# Altium schematic symbol library PCB_Project_Power_1.SCHLIB: 68 symbols
Pins are listed as number, name and electrical type; pins without a type are passive.

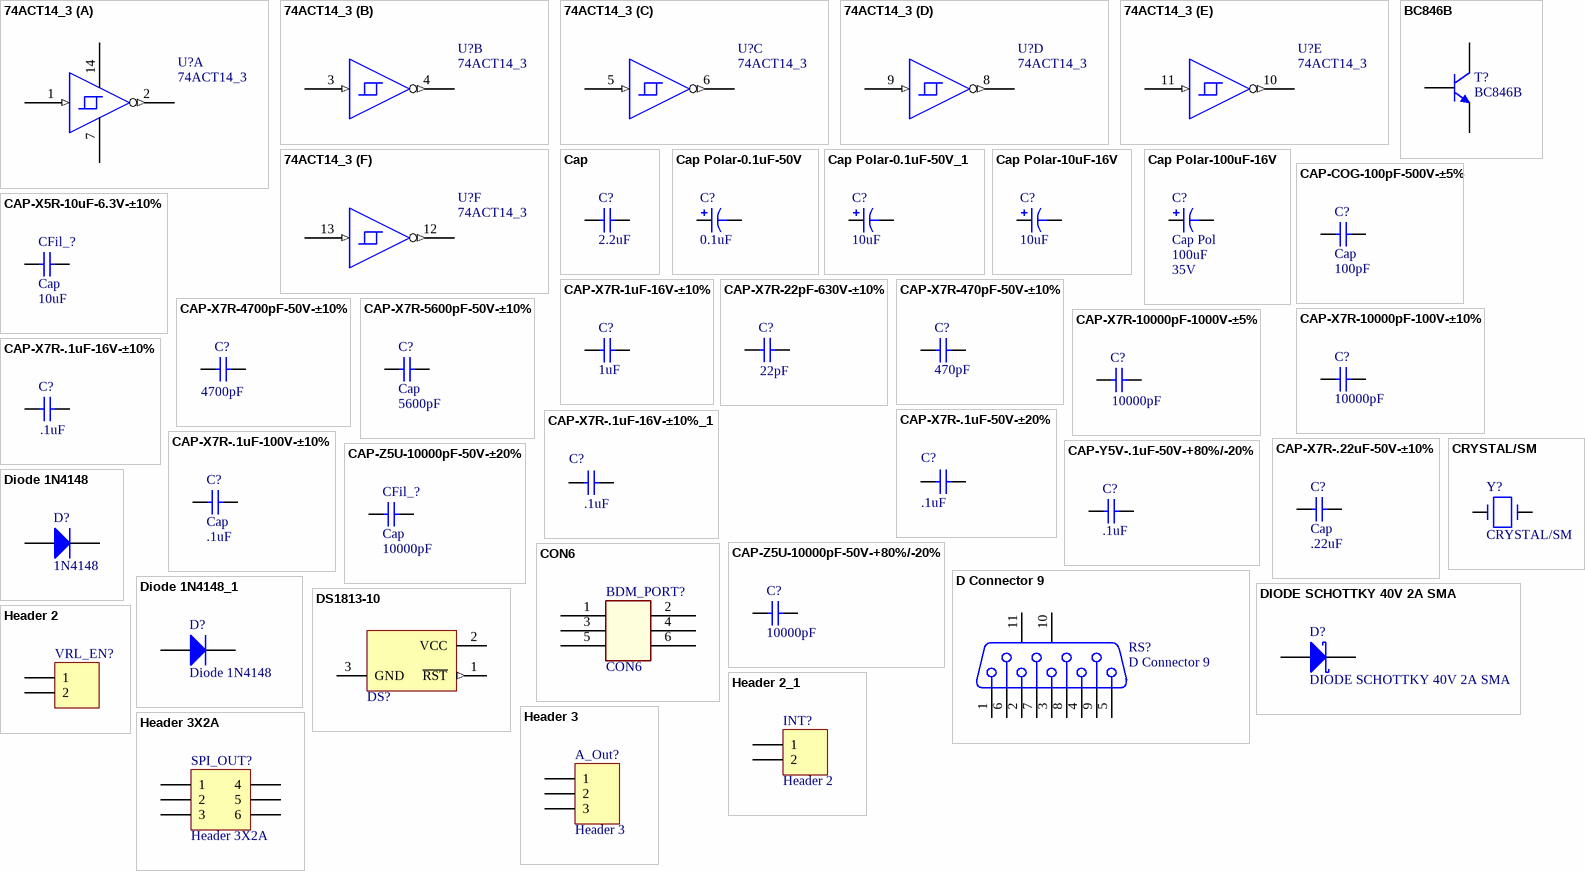
[diagram p0: symbols 74ACT14_3 to Header 3X2A]

## 74ACT14_3
designator U?
IC INVERTER HEX SCHMITT 14SOIC; MPN: 74ACT14SCX; PN: 74ACT14SCXCT-ND; URL: http://www.digikey.ca/product-detail/en/74ACT14SCX/74ACT14SCXCT-ND
footprint SOIC127P600X175-14M (SOIC, 14-Leads, Body 8.65x3.90mm, Pitch 1.27mm, IPC Low Density)
part A pins: 1 A (in), 2 Y (out), 7 GND_POWER (power), 14 VCC (power)
part B pins: 3 A (in), 4 Y (out)
part C pins: 5 A (in), 6 Y (out)
part D pins: 8 Y (out), 9 A (in)
part E pins: 10 Y (out), 11 A (in)
part F pins: 12 Y (out), 13 A (in)

## BC846B
designator T?
NPN General Purpose Amplifier; PN: 568-1632-1-ND; URL: http://www.digikey.ca/product-detail/en/BC846B,215/568-1632-1-ND/763459
footprint SOT95P230X110-3M (SOT23, 3-Leads, Body 2.90x2.30mm, Pitch 0.95mm, IPC Low Density)
pins: 1 B, 2 E, 3 C

## Cap
designator C?, comment value 2.2uF  (hidden comment: Cap-100V)
Capacitor; Published: 8-Jun-2000; LatestRevisionDate: 17-Jul-2002; LatestRevisionNote: Re-released for DXP Platform.; PackageReference: RAD-0.3; Publisher: Altium Limited; PackageDescription: Radial Cap, Thru-Hole; 2 Leads; 0.3 in Pin Spacing; URL: http://www.digikey.ca/product-detail/en/HMK325B7225KN-T/587-1778-2-ND/1212778
footprint RAD-0.3 (Radial Cap, Thru-Hole; 2 Leads; 0.3 in Pin Spacing)
footprint C1210 (Chip Capacitor, Body 3.2x2.5mm, IPC High Density)
pins: 1, 2

## Cap Polar-0.1uF-50V
designator C?, comment value 0.1uF  (hidden comment: Pol)
CAP 85C 0.1uF ±20% 50V WX Series Aluminum Electrolytic; MPN: UWX1H0R1MCL2GB; Name: Cap Polar-0.1uF-50V; Tan Theta: 0.12; Leakage Current: 3; Rated Ripple Current: 1; PN: 493-2121-1-ND; Diameter: 3; URL: http://www.digikey.ca/product-detail/en/UWX1H0R1MCL2GB/493-2121-1-ND
footprint CAPACITOR_3MM
pins: 1, 2
1 alternate drawing of the same symbol

## Cap Polar-0.1uF-50V_1
designator C?, comment value 10uF  (hidden comment: Pol)
CAP 85C 0.1uF ±20% 50V WX Series Aluminum Electrolytic; MPN: UWX1H0R1MCL2GB; Name: Cap Polar-0.1uF-50V; Tan Theta: 0.12; Leakage Current: 3; Rated Ripple Current: 1; PN: 493-2121-1-ND; Diameter: 3; URL: http://www.digikey.ca/product-detail/en/UWX1C100MCL2GB/493-2099-2-ND/589840
footprint CAPACITOR_3MM
footprint CAPACITOR_3MM
pins: 1, 2
1 alternate drawing of the same symbol

## Cap Polar-10uF-16V
designator C?, comment value 10uF  (hidden comment: Cap Pol)
CAP 85C 10uF ±20% 16V WX Series Aluminum Electrolytic; MPN: UWX1C100MCL2GB; Name: Cap Polar-10uF-16V; Tan Theta: 0.16; Leakage Current: 3; Rated Ripple Current: 18; PN: 493-2099-1-ND; Diameter: 3; URL: http://www.digikey.ca/product-detail/en/UWX1C100MCL2GB/493-2099-1-ND
footprint CAPACITOR_3MM
pins: 1, 2
1 alternate drawing of the same symbol

## Cap Polar-100uF-16V
designator C?, comment Cap Pol  value 100uF  Voltage: 35V
CAP 85C 100uF ±20% 16V WX Series Aluminum Electrolytic; MPN: UWX1C101MCL1GB; Name: Cap Polar-100uF-16V; Tan Theta: 0.16; Leakage Current: 16; Rated Ripple Current: 86; PN: 493-2105-1-ND; Diameter: 6.3; URL: http://www.digikey.ca/product-detail/en/UWX1C101MCL1GB/493-2105-1-ND; URLZ: http://www.digikey.ca/product-detail/en/UWT1V101MCL1GS/493-2203-1-ND/590178
footprint CAPACITOR_6.3MM
footprint CAPACITOR_6.3MM
pins: 1, 2
1 alternate drawing of the same symbol

## CAP-COG-100pF-500V-±5%
designator C?, comment Cap  value 100pF
CAP CER 100pF 500v COG 0805; MPN: C0805C101JCGACTU; Name: CAP-COG-100pF-500V-±5%; PN: 399-5102-1-ND; URL: http://www.digikey.ca/product-detail/en/C0805C101JCGACTU/399-5102-1-ND
footprint CAPC2012X09M (Chip Capacitor, 2-Leads, Body 2.00x1.25mm, IPC Low Density)
pins: 1, 2

## CAP-X5R-10uF-6.3V-±10%
designator CFil_?, comment Cap  value 10uF
CAP CER 10uF 6.3v X5R 0805; MPN: C0805C106K9PACTU; Name: CAP-X5R-10uF-6.3V-±10%; PN: 399-3138-1-ND; URL: http://www.digikey.ca/product-detail/en/C0805C106K9PACTU/399-3138-1-ND
footprint CAPC2012X09M (Chip Capacitor, 2-Leads, Body 2.00x1.25mm, IPC Low Density)
pins: 1, 2

## CAP-X7R-1uF-16V-±10%
designator C?, comment value 1uF  (hidden comment: Cap)
CAP CER 1uF 16v X7R 0805; MPN: C0805C105K4RACTU; Name: CAP-X7R-1uF-16V-±10%; WV: 16; Tolerance: ±10%; PN: 399-1284-1-ND; Type: X7R; URL: http://www.digikey.ca/product-detail/en/C0805C105K4RACTU/399-1284-1-ND
footprint CAPC2012X09M (Chip Capacitor, 2-Leads, Body 2.00x1.25mm, IPC Low Density)
pins: 1, 2

## CAP-X7R-22pF-630V-±10%
designator C?, comment value 22pF  (hidden comment: Cap)
CAP CER 22pF 630v X7R 0805; MPN: C0805C220KBRACTU; Name: CAP-X7R-22pF-630V-±10%; PN: 399-5568-1-ND; URL: http://www.digikey.ca/product-detail/en/C0805C220KBRACTU/399-5568-1-ND
footprint CAPC2012X09M (Chip Capacitor, 2-Leads, Body 2.00x1.25mm, IPC Low Density)
pins: 1, 2

## CAP-X7R-470pF-50V-±10%
designator C?, comment value 470pF  (hidden comment: ap)
CAP CER 470pF 50v X7R 0805; MPN: C0805C471K5RACTU; Name: CAP-X7R-470pF-50V-±10%; PN: 399-1142-1-ND; URL: http://www.digikey.ca/product-detail/en/C0805C471K5RACTU/399-1142-1-ND
footprint CAPC2012X09M (Chip Capacitor, 2-Leads, Body 2.00x1.25mm, IPC Low Density)
pins: 1, 2

## CAP-X7R-4700pF-50V-±10%
designator C?, comment value 4700pF  (hidden comment: p)
CAP CER 4700pF 50v X7R 0805; MPN: C0805C472K5RACTU; Name: CAP-X7R-4700pF-50V-±10%; PN: 399-1155-1-ND; URL: http://www.digikey.ca/product-detail/en/C0805C472K5RACTU/399-1155-1-ND
footprint CAPC2012X09M (Chip Capacitor, 2-Leads, Body 2.00x1.25mm, IPC Low Density)
pins: 1, 2

## CAP-X7R-5600pF-50V-±10%
designator C?, comment Cap  value 5600pF
CAP CER 5600pF 50v X7R 0805; MPN: C0805C562K5RACTU; Name: CAP-X7R-5600pF-50V-±10%; PN: 399-1156-1-ND; URL: http://www.digikey.ca/product-detail/en/C0805C562K5RACTU/399-1156-1-ND
footprint CAPC2012X09M (Chip Capacitor, 2-Leads, Body 2.00x1.25mm, IPC Low Density)
pins: 1, 2

## CAP-X7R-10000pF-100V-±10%
designator C?, comment value 10000pF  (hidden comment: Cap)
CAP CER 10000pF 100v X7R 0805; MPN: C0805C103K1RACTU; Name: CAP-X7R-10000pF-100V-±10%; PN: 399-1159-1-ND; URL: http://www.digikey.ca/product-detail/en/C0805C103K1RACTU/399-1159-1-ND
footprint CAPC2012X09M (Chip Capacitor, 2-Leads, Body 2.00x1.25mm, IPC Low Density)
pins: 1, 2

## CAP-X7R-10000pF-1000V-±5%
designator C?, comment value 10000pF  (hidden comment: Cap)
CAP CER 10000pF 1000v X7R 1210; MPN: C1210C103JDRACTU; Name: CAP-X7R-10000pF-1000V-±5%; PN: 399-5106-1-ND; URL: http://www.digikey.ca/product-detail/en/C1210C103JDRACTU/399-5106-1-ND
footprint CAPC2012X09M (Chip Capacitor, 2-Leads, Body 2.00x1.25mm, IPC Low Density)
footprint CAPC3225X25M
pins: 1, 2

## CAP-X7R-.1uF-16V-±10%
designator C?, comment value .1uF  (hidden comment: Cap)
CAP CER .1uF 16v X7R 0805; MPN: C0805C104K4RACTU; Name: CAP-X7R-.1uF-16V-±10%; PN: 399-3677-1-ND; URL: http://www.digikey.ca/product-detail/en/T491A104M035AT/399-3677-2-ND/818538
footprint C1206 (Chip Capacitor, Body 3.2x1.6mm, IPC High Density)
pins: 1, 2

## CAP-X7R-.1uF-16V-±10%_1
designator C?, comment value .1uF  (hidden comment: Cap)
CAP CER .1uF 16v X7R 0805; MPN: C0805C104K4RACTU; Name: CAP-X7R-.1uF-16V-±10%; PN: 399-1167-1-ND; URL: http://www.digikey.ca/product-detail/en/C0805C104K4RACTU/399-1167-1-ND
footprint CAPC2012X09M (Chip Capacitor, 2-Leads, Body 2.00x1.25mm, IPC Low Density)
pins: 1, 2

## CAP-X7R-.1uF-50V-±20%
designator C?, comment value .1uF  (hidden comment: Cap)
CAP CER .1uF 50v X7R 0805; MPN: C0805C104M5RACTU; Name: CAP-X7R-.1uF-50V-±20%; PN: 399-1169-1-ND; URL: http://www.digikey.ca/product-detail/en/C0805C104M5RACTU/399-1169-1-ND
footprint CAPC2012X09M (Chip Capacitor, 2-Leads, Body 2.00x1.25mm, IPC Low Density)
pins: 1, 2

## CAP-X7R-.1uF-100V-±10%
designator C?, comment Cap  value .1uF
CAP CER .1uF 100v X7R 0805; MPN: C0805C104K1RACTU; Name: CAP-X7R-.1uF-100V-±10%; PN: 399-3486-1-ND; URL: http://www.digikey.ca/product-detail/en/C0805C104K1RACTU/399-3486-1-ND
footprint CAPC2012X09M (Chip Capacitor, 2-Leads, Body 2.00x1.25mm, IPC Low Density)
pins: 1, 2

## CAP-X7R-.22uF-50V-±10%
designator C?, comment Cap  value .22uF
CAP CER .22uF 50v X7R 0805; MPN: C0805C224K5RACTU; Name: CAP-X7R-.22uF-50V-±10%; PN: 399-3491-1-ND; URL: http://www.digikey.ca/product-detail/en/C0805C224K5RACTU/399-3491-1-ND
footprint CAPC2012X09M (Chip Capacitor, 2-Leads, Body 2.00x1.25mm, IPC Low Density)
pins: 1, 2

## CAP-Y5V-.1uF-50V-+80%/-20%
designator C?, comment value .1uF  (hidden comment: Cap)
CAP CER .1uF 50v Y5V 0805; MPN: C0805C104Z5VACTU; Name: CAP-Y5V-.1uF-50V-+80%/-20%; WV: 50; Tolerance: +80%/-20%; PN: 399-1177-1-ND; Type: Y5V; URL: http://www.digikey.ca/product-detail/en/C0805C104Z5VACTU/399-1177-1-ND
footprint CAPC2012X09M (Chip Capacitor, 2-Leads, Body 2.00x1.25mm, IPC Low Density)
pins: 1, 2

## CAP-Z5U-10000pF-50V-+80%/-20%
designator C?, comment value 10000pF  (hidden comment: Cap)
CAP CER 10000pF 50v Z5U 0805; MPN: C0805C103Z5UACTU; Name: CAP-Z5U-10000pF-50V-+80%/-20%; PN: 399-1173-1-ND; URL: http://www.digikey.ca/product-detail/en/C0805C103Z5UACTU/399-1173-1-ND
footprint CAPC2012X09M (Chip Capacitor, 2-Leads, Body 2.00x1.25mm, IPC Low Density)
pins: 1, 2

## CAP-Z5U-10000pF-50V-±20%
designator CFil_?, comment Cap  value 10000pF
CAP CER 10000pF 50v Z5U 0805; MPN: C0805C103M5UACTU; Name: CAP-Z5U-10000pF-50V-±20%; PN: 399-1174-1-ND; URL: http://www.digikey.ca/product-detail/en/C0805C103M5UACTU/399-1174-1-ND
footprint CAPC2012X09M (Chip Capacitor, 2-Leads, Body 2.00x1.25mm, IPC Low Density)
pins: 1, 2

## CON6
designator BDM_PORT?
CONN HEADER BRKWAY 6POS DL .100; MPN: 5-146254-3; PN: A105155-ND; URL: http://www.digikey.ca/product-detail/en/5-146254-3/A105155-ND
footprint HDR3X2 (Connector; Header Male; 3x2 Position)
pins: 1, 2, 3, 4, 5, 6

## CRYSTAL/SM
designator Y?
URL: *
footprint HC-49USX-SMD
pins: 1, 2

## D Connector 9
designator RS?
Receptacle Assembly, 9 Position, Right Angle; PN: AE10921-ND; URL: http://www.digikey.ca/product-detail/en/ADF09A-KG-TASB3-R/AE10921-ND/1241800
footprint DSUB1.385-2H9 (Connector; D Subminiature; 9 Position; Right Angle; Pitch 1.385 mm)
signal-integrity model Connector
pins: 1, 2, 3, 4, 5, 6, 7, 8, 9, 10 MH1, 11 MH2

## Diode 1N4148
designator D?, comment 1N4148
High Conductance Fast Diode; MPN: 1N4148WX-TP; PN: 1N4148WXTPMSCT-ND; URL: http://www.digikey.ca/product-detail/en/1N4148WX-TP/1N4148WXTPMSCT-ND
signal-integrity model 1N4148
footprint zener_sod323
pins: A, K

## Diode 1N4148_1
designator D?, comment Diode 1N4148
High Conductance Fast Diode; PN: 1N4148WXTPMSCT-ND; URL: http://www.digikey.ca/product-detail/en/1N4148WX-TP/1N4148WXTPMSCT-ND/717312
signal-integrity model 1N4148
footprint zener_sod323
pins: A, K

## DIODE SCHOTTKY 40V 2A SMA
designator D?
Schottky Rectifier; MPN: B240A-13-F; PN: B240A-FDICT-ND; URL: http://www.digikey.ca/product-detail/en/B240A-13-F/B240A-FDICT-ND
footprint DIOM4326X23M (Molded Diode, 2-Leads, Body 4.30x2.60mm, IPC Low Density)
pins: 1 K, 2 A

## DS1813-10
designator DS?  (value not drawn)
5V EconoReset with Pushbutton; MPN: DS1813R-10+T&R; PN: DS1813R-10+T&RCT-ND; Published: 13-Oct-2000; LatestRevisionDate: 17-Jul-2002; LatestRevisionNote: Re-released for DXP Platform.; DatasheetVersion: 7-May-1998; PackageVersion: Feb-1999; PackageReference: TO-92; Publisher: Altium Limited; PackageDescription: TO, Flat Index; 3 In-Line, Axial Leads; Body Dia. 4.7mm; Leads 0.56 x 0.51 mm (max); ComponentLink1Description: Manufacturer Link; ComponentLink1URL: http://www.maxim-ic.com/; ComponentLink2Description: Datasheet; ComponentLink2URL: http://pdfserv.maxim-ic.com/en/ds/DS1813.pdf; URL: http://www.digikey.ca/product-detail/en/DS1813R-10%2BT%26R/DS1813R-10%2BT%26RCT-ND
footprint SOT95P230X110-3M (SOT23, 3-Leads, Body 2.90x2.30mm, Pitch 0.95mm, IPC Low Density)
pins: 1 ~{RST} (out), 2 VCC (power), 3 GND (power)

## Header 2
designator VRL_EN?  (value not drawn)
Header, 2-Pin; MPN: PEC02SFAN; PN: S1212E-02-ND; URL: http://www.digikey.ca/product-detail/en/PEC04SFAN/S1212E-02-ND
footprint HDR1X2 (Connector; Header; 2 Position)
signal-integrity model Connector
pins: 1, 2

## Header 2_1
designator INT?, comment Header 2
Header, 2-Pin Male; MPN: PEC02SFAN; PN: S1212E-02-ND; URL: http://www.digikey.ca/product-detail/en/PEC04SFAN/S1212E-02-ND
footprint HDR1X2 (Connector; Header; 2 Position)
pins: 1, 2

## Header 3
designator A_Out?
Header, 3-Pin; LatestRevisionDate: 17-Jul-2002; LatestRevisionNote: Re-released for DXP Platform.; Publisher: Altium Limited
footprint HDR1X3 (Connector; Header; 3 Position)
signal-integrity model Connector
pins: 1, 2, 3

## Header 3X2A
designator SPI_OUT?
Header, 3-Pin, Dual row; LatestRevisionDate: 17-Jul-2002; LatestRevisionNote: Re-released for DXP Platform.; Publisher: Altium Limited
footprint HDR2X3_CEN (Connector; Header; 3x2 Position)
signal-integrity model Connector
pins: 1, 2, 3, 4, 5, 6

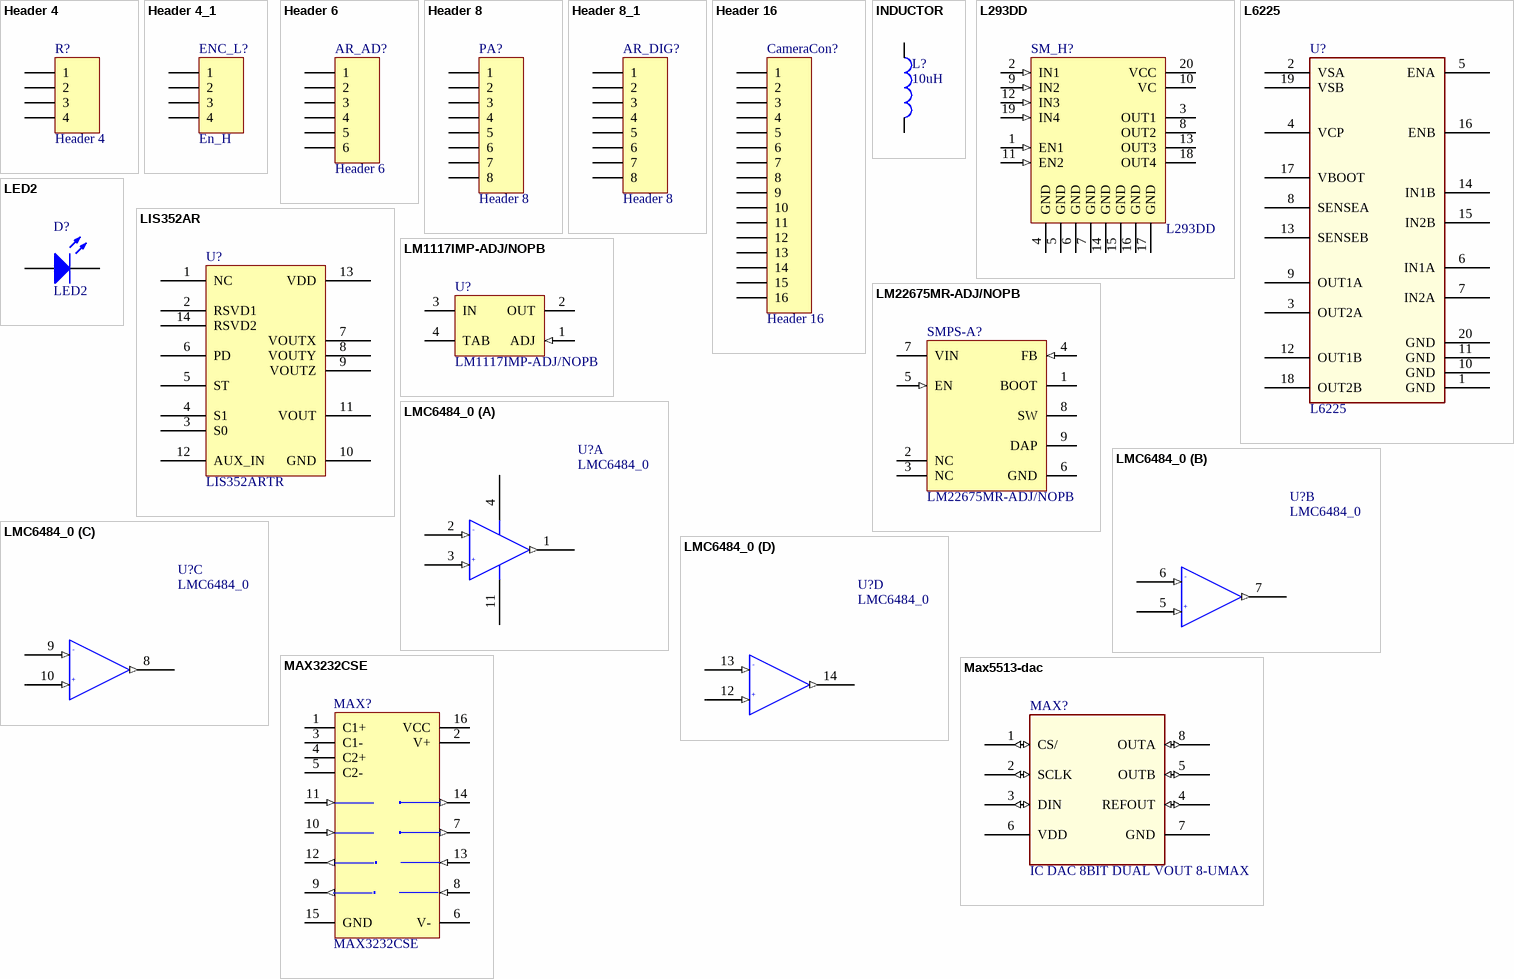
[diagram p1: symbols Header 4 to Max5513-dac]

## Header 4
designator R?
Header, 4-Pin Male; MPN: PEC04SFAN; PN: S1212E-04-ND; URL: http://www.digikey.ca/product-detail/en/PEC04SFAN/S1212E-04-ND
footprint HDR1X4 (Connector; Header; 4 Position)
pins: 1, 2, 3, 4

## Header 4_1
designator ENC_L?, comment En_H
Header, 4-Pin; LatestRevisionDate: 17-Jul-2002; LatestRevisionNote: Re-released for DXP Platform.; Publisher: Altium Limited
footprint HDR1X4 (Connector; Header; 4 Position)
signal-integrity model Connector
pins: 1, 2, 3, 4

## Header 6
designator AR_AD?
Header, 6-Pin; LatestRevisionDate: 17-Jul-2002; LatestRevisionNote: Re-released for DXP Platform.; Publisher: Altium Limited
footprint HDR1X6 (Connector; Header; 6 Position)
signal-integrity model Connector
pins: 1, 2, 3, 4, 5, 6

## Header 8
designator PA?
Header, 8-Pin Male; MPN: PEC08SFAN; PN: S1212E-08-ND; URL: http://www.digikey.ca/product-detail/en/PEC08SFAN/S1212E-08-ND
footprint HDR1X8 (Connector; Header; 16 Position)
pins: 1, 2, 3, 4, 5, 6, 7, 8

## Header 8_1
designator AR_DIG?, comment Header 8
Header, 8-Pin; LatestRevisionDate: 17-Jul-2002; LatestRevisionNote: Re-released for DXP Platform.; Publisher: Altium Limited
footprint HDR1X8 (Connector; Header; 8 Position)
signal-integrity model Connector
pins: 1, 2, 3, 4, 5, 6, 7, 8

## Header 16
designator CameraCon?
Header, 16-Pin; LatestRevisionDate: 17-Jul-2002; LatestRevisionNote: Re-released for DXP Platform.; Publisher: Altium Limited
footprint HDR1X16 (Connector; Header; 16 Position)
signal-integrity model Connector
pins: 1, 2, 3, 4, 5, 6, 7, 8, 9, 10, 11, 12, 13, 14, 15, 16

## INDUCTOR
designator L?, comment 10uH
URL: http://www.digikey.com/product-detail/en/FBMH2012HM331-T/587-1749-1-ND/1147074
footprint CAPC2012X09M (Chip Capacitor, 2-Leads, Body 2.00x1.25mm, IPC Low Density)
pins: 1, 2

## L293DD
designator SM_H?
Push-Pull Four Channel Driver With Diode; PN: 497-2937-1-ND; Published: 8-Jun-2000; LatestRevisionDate: 13-Apr-2006; LatestRevisionNote: IPC-7351 Footprint Added.; DatasheetVersion: Jun-1996; PackageVersion: Jul-2001; PackageReference: SO20; Publisher: Altium Limited; PackageDescription: 20-Pin Plastic Small Outline Integrated Circuit 1.27 mm Pitch; Code_JEDEC: MS-013-AC; Code_IPC: SOIC127P1030-20; ComponentLink1Description: Manufacturer Link; ComponentLink1URL: http://www.st.com/; ComponentLink2Description: Datasheet; ComponentLink2URL: http://www.st.com/stonline/products/literature/ds/1330/l293d.pdf; URL: http://www.digikey.ca/product-detail/en/L293DD013TR/497-2937-1-ND/634902
footprint SO20_N (SOIC, 20-Leads, Body 12.8x7.5mm, Pitch 1.27mm, IPC Medium Density)
footprint SO20_L (SOIC, 20-Leads, Body 12.8x7.5mm, Pitch 1.27mm, IPC High Density)
footprint SO20_M (SOIC, 20-Leads, Body 12.8x7.5mm, Pitch 1.27mm, IPC Low Density)
3D model SO20 (PCB3D Model)
pins: 1 EN1 (in), 2 IN1 (in), 3 OUT1 (hiz), 4 GND (power), 5 GND (power), 6 GND (power), 7 GND (power), 8 OUT2 (hiz), 9 IN2 (in), 10 VC (power), 11 EN2 (in), 12 IN3 (in), 13 OUT3 (hiz), 14 GND (power), 15 GND (power), 16 GND (power), 17 GND (power), 18 OUT4 (hiz), 19 IN4 (in), 20 VCC (power)

## L6225
designator U?
IC MOTOR DRIVER PAR 20POWERSO; MPN: L6225PDTR; PN: 497-5345-1-ND; URL: http://www.digikey.ca/product-detail/en/L6225PDTR/497-5345-1-ND
footprint POWERSOP20
pins: 1 GND (power), 2 VSA (power), 3 OUT2A, 4 VCP (power), 5 ENA, 6 IN1A, 7 IN2A, 8 SENSEA (power), 9 OUT1A, 10 GND (power), 11 GND (power), 12 OUT1B, 13 SENSEB (power), 14 IN1B, 15 IN2B, 16 ENB, 17 VBOOT (power), 18 OUT2B, 19 VSB (power), 20 GND (power)

## LED2
designator D?
Typical RED, GREEN, YELLOW, AMBER GaAs LED; Published: 8-Jun-2000; LatestRevisionDate: 17-Jul-2002; LatestRevisionNote: Re-released for DXP Platform.; PackageVersion: Feb-2002; PackageReference: 3.2X1.6X1.1; Publisher: Altium Limited; PackageDescription: SM LED; 2 Flat Leads; http://www.digikey.ca/product-detail/en/LTST-C150KGKT/160-1404-2-ND/365085: URL
footprint 3.2X1.6X1.1 (SMT LED; 2 Flat Leads)
simulation model LED2 (Diode)
pins: 1 A, 2 K

## LIS352AR
designator U?, comment LIS352ARTR
IC ACCELEROMETER 3AXIS LP 14LGA; PN: 497-11075-1-ND; MPN: LIS352ARTR; URL: http://www.digikey.ca/product-detail/en/LIS352ARTR/497-11075-1-ND
footprint LGA-14-3X5MM
pins: 1 NC "Internally not connected", 2 RSVD1 "Connect to Vdd", 3 S0 "Mux selector 0 (connect to Vdd or to GND)", 4 S1 "Mux selector 1 (connect to Vdd or to GND)", 5 ST "Self-test (logic 0: normal mode; logic 1: self-test)", 6 PD "Power-down (logic 0: normal mode; logic 1: power-down mode)", 7 VOUTX "Output voltage X channel", 8 VOUTY "Output voltage Y channel", 9 VOUTZ "Output voltage Z channel", 10 GND "0 V supply", 11 VOUT "Multiplexer output", 12 AUX_IN "Auxiliary input", 13 VDD "Power supply", 14 RSVD2 "Connect to Vdd"

## LM1117IMP-ADJ/NOPB
designator U?
800mA Low-Dropout Linear Regulator, 4-pin SOT-223, Pb-Free; Manufacturer: National Semiconductor; MPN: LM1117MP-3.3/NOPB; PackageTopMarking: XYTT*N03B; PowerWise: N; CompType: LDO IC; PN: LM1117MP-3.3/NOPBCT-ND; Published: 1-Mar-2010; DatasheetVersion: Apr-2006; PackageVersion: revB, Apr-2003; PackageReference: MP04A; Publisher: Altium Limited; PackageDescription: Molded SOT-223, 6.50 x 3.56 x 1.6mm Body, 4 Lead, 2.3mm Pitch; Supplier 1: Digi-Key; Supplier Part Number 1: LM1117IMP-ADJTR-ND; Supplier 2: Digi-Key; Supplier Part Number 2: LM1117IMP-ADJCT-ND; Supplier 3: Digi-Key; Supplier Part Number 3: LM1117IMP-ADJDKR-ND; Supplier 4: Farnell; Supplier Part Number 4: 1469050; PartNumber: LM1117IMP-ADJ/NOPB; RoHS: Y; PinCount: 4; Code_JEDEC: TO-261-AA; Code_IPC: SOT223-4; ComponentLink1Description: LM1117 Datasheet; ComponentLink1URL: http://www.national.com/ds/LM/LM1117.pdf; ComponentLink2Description: LM1117 Web Page; ComponentLink2URL: http://www.national.com/pf/LM/LM1117.html; ComponentLink3Description: MP04A Package Page; ComponentLink3URL: http://www.national.com/packaging/folders/mp04a.html; URL: http://www.digikey.ca/product-detail/en/LM1117MP-3.3%2FNOPB/LM1117MP-3.3%2FNOPBCT-ND
footprint MP04A_L (SOT223, 4-Leads, Body 6.5x3.5mm, Pitch 2.3mm, Lead Span 7mm, IPC High Density)
pins: 1 ADJ (in), 2 OUT (power), 3 IN (power), 4 TAB (power)

## LM22675MR-ADJ/NOPB
designator SMPS-A?
1A SIMPLE SWITCHER®, Step-Down Voltage Regulator with Precision Enable, 8-pin PSOP, Pb-Free; Manufacturer: National Semiconductor; MPN: LM22675MRE-ADJ/NOPB; PackageTopMarking: NSXYTT*L22675*ADJ; PowerWise: N; High-Reliability: Y; PN: LM22675MRE-ADJ/NOPBCT-ND; DatasheetVersion: Dec-2010; PackageVersion: revB, Dec-2007; PackageReference: MRA08B; PackageDescription: Molded, PSOP .193 x .154 x .058in, 8 Lead, .050in Pitch, Large DAP; PartNumber: LM22675MR-ADJ/NOPB; RoHS: Y; PinCount: 8; CompType: Switcher; Code_JEDEC: MS-012-AA; ComponentLink1Description: Manufacturer URL; ComponentLink1URL: http://www.national.com/; ComponentLink2Description: LM22675 Datasheet; ComponentLink2URL: http://www.national.com/ds/LM/LM22675.pdf; ComponentLink3Description: LM22675 Web Page; ComponentLink3URL: http://www.national.com/pf/LM/LM22675.html; ComponentLink4Description: MRA08B Package Page; ComponentLink4URL: http://www.national.com/packaging/folders/mra08b.html; URL: http://www.digikey.ca/product-detail/en/LM22675MRE-ADJ%2FNOPB/LM22675MRE-ADJ%2FNOPBCT-ND
footprint MRA08B_N (SOIC, 8-Leads, Body 4.9x3.9mm, Pitch 1.27mm, Thermal Pad, IPC Medium Density)
footprint MRA08B_L (SOIC, 8-Leads, Body 4.9x3.9mm, Pitch 1.27mm, Exposed Pad, IPC High Density)
footprint MRA08B_M (SOIC, 8-Leads, Body 4.9x3.9mm, Pitch 1.27mm, Thermal Pad, IPC Low Density)
pins: 1 BOOT, 2 NC, 3 NC, 4 FB (in), 5 EN (in), 6 GND (power), 7 VIN (power), 8 SW (power), 9 DAP (power)

## LMC6484_0
designator U?
IC OPAMP GP 1.5MHZ RRO 14SOIC; MPN: LMC6484IMX/NOPB; PN: LMC6484IMX/NOPBCT-ND; URL: http://www.digikey.ca/product-detail/en/LMC6484IMX%2FNOPB/LMC6484IMX%2FNOPBCT-ND
footprint SOIC127P600X175-14M-NS (SOIC, 14-Leads, Body 8.62x3.90mm, Pitch 1.27mm, IPC Low Density)
part A pins: 1 OUT1 (out), 2 INVIN 1 (in), 3 NINVIN 1 (in), 4 VCC (power), 11 -VCC (power)
part B pins: 5 NINVIN2 (in), 6 INVIN2 (in), 7 OUT2 (out)
part C pins: 8 OUT3 (out), 9 INVIN3 (in), 10 NINVIN3 (in)
part D pins: 12 NINVIN4 (in), 13 INVIN4 (in), 14 OUT4 (out)
part A text: -; +
part B text: -; +
part C text: -; +
part D text: -; +

## MAX3232CSE
designator MAX?
3.0V TO 5.5V, Low-Power, up to 1Mbps, True RS-232 Transceiver Using Four 0.1µF External Capacitor; PN: MAX3232CSE+-ND; Published: 16-Jan-2001; LatestRevisionDate: 13-Apr-2006; LatestRevisionNote: IPC-7351 Footprint Added.; DatasheetVersion: Mar-1999; PackageReference: NSO16; Publisher: Altium Limited; PackageDescription: 16-Pin Small Outline Integrated Circuit 1.27 mm Pitch; Code_JEDEC: MS-012-AC; Code_IPC: SOIC127P600-16; ComponentLink1Description: Manufacturer Link; ComponentLink1URL: http://www.maxim-ic.com/; ComponentLink2Description: Datasheet; ComponentLink2URL: http://pdfserv.maxim-ic.com/en/ds/MAX3222-MAX3241.pdf; URL: http://www.digikey.ca/product-detail/en/MAX3232CSE%2B/MAX3232CSE%2B-ND/947902
footprint NSO16_N (SOIC, 16-Leads, Body 9.9x3.9mm, Pitch 1.27mm, IPC Medium Density)
footprint NSO16_L (SOIC, 16-Leads, Body 9.9x3.9mm, Pitch 1.27mm, IPC High Density)
footprint NSO16_M (SOIC, 16-Leads, Body 9.9x3.9mm, Pitch 1.27mm, IPC Low Density)
3D model NSO16 (PCB3D Model)
pins: 1 C1+, 2 V+ (power), 3 C1-, 4 C2+, 5 C2-, 6 V- (power), 7 T2OUT (out), 8 R2IN (in), 9 R2OUT (out), 10 T2IN (in), 11 T1IN (in), 12 R1OUT (out), 13 R1IN (in), 14 T1OUT (out), 15 GND (power), 16 VCC (power)

## Max5513-dac
designator MAX?, comment IC DAC 8BIT DUAL VOUT 8-UMAX
MPN: MAX5513EUA+; PN: MAX5513EUA+-ND; URL: http://www.digikey.ca/product-detail/en/MAX5513EUA%2B/MAX5513EUA%2B-ND
footprint TSOP65P490X110-8M (TSOP, 8-Leads, Body 3.00x3.00mm, Pitch 0.65mm, IPC Low Density)
pins: 1 CS/ (io), 2 SCLK (io), 3 DIN (io), 4 REFOUT (io), 5 OUTB (io), 6 VDD (power), 7 GND (power), 8 OUTA (io)

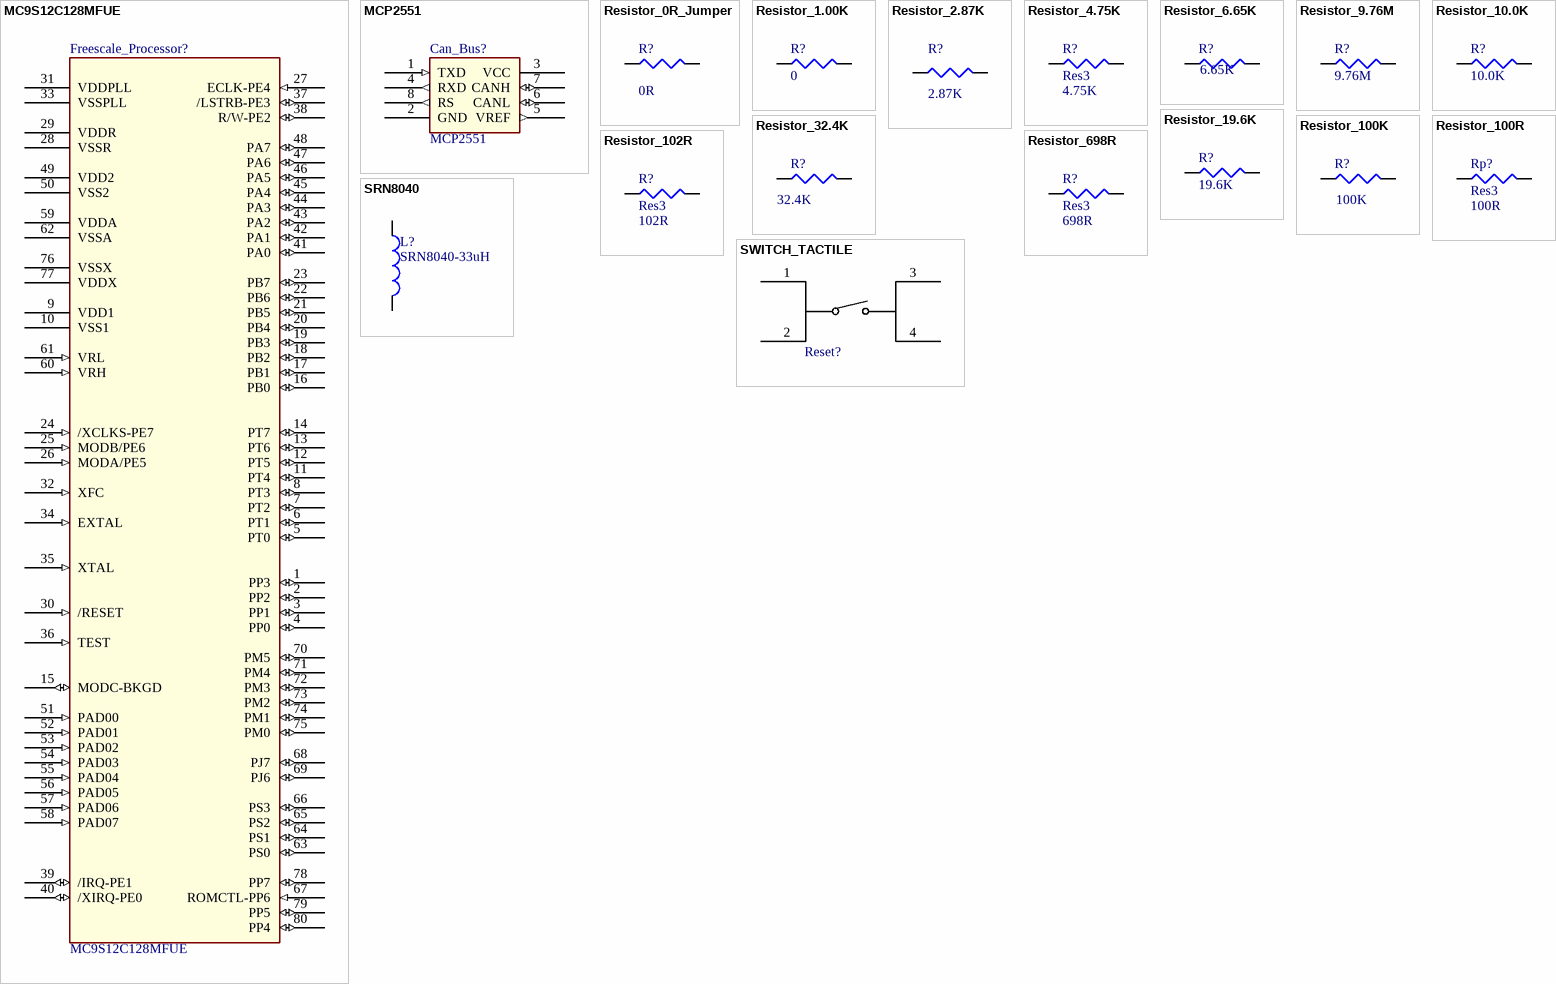
[diagram p2: symbols MC9S12C128MFUE to SWITCH_TACTILE]

## MC9S12C128MFUE
designator Freescale_Processor?
IC MCU 16BIT 128KB FLASH 80QFP; MPN: MC9S12C32CFUE25; PN: MC9S12C32CFUE25-ND; URL: http://www.digikey.ca/product-detail/en/MC9S12C32CFUE25/MC9S12C32CFUE25-ND
footprint QUAD.65M/80/WG17.45-HCS12
pins: 1 PP3 (io), 2 PP2 (io), 3 PP1 (io), 4 PP0 (io), 5 PT0 (io), 6 PT1 (io), 7 PT2 (io), 8 PT3 (io), 9 VDD1 (power), 10 VSS1 (power), 11 PT4 (io), 12 PT5 (io), 13 PT6 (io), 14 PT7 (io), 15 MODC-BKGD (io), 16 PB0 (io), 17 PB1 (io), 18 PB2 (io), 19 PB3 (io), 20 PB4 (io), 21 PB5 (io), 22 PB6 (io), 23 PB7 (io), 24 /XCLKS-PE7 (in), 25 MODB/PE6 (in), 26 MODA/PE5 (in), 27 ECLK-PE4 (in), 28 VSSR (power), 29 VDDR (power), 30 /RESET (in), 31 VDDPLL (power), 32 XFC (in), 33 VSSPLL (power), 34 EXTAL (in), 35 XTAL (in), 36 TEST (in), 37 /LSTRB-PE3 (io), 38 R/W-PE2 (io), 39 /IRQ-PE1 (io), 40 /XIRQ-PE0 (io), 41 PA0 (io), 42 PA1 (io), 43 PA2 (io), 44 PA3 (io), 45 PA4 (io), 46 PA5 (io), 47 PA6 (io), 48 PA7 (io), 49 VDD2 (power), 50 VSS2 (power), 51 PAD00 (in), 52 PAD01 (in), 53 PAD02 (in), 54 PAD03 (in), 55 PAD04 (in), 56 PAD05 (in), 57 PAD06 (in), 58 PAD07 (in), 59 VDDA (power), 60 VRH (in), 61 VRL (in), 62 VSSA (power), 63 PS0 (io), 64 PS1 (io), 65 PS2 (io), 66 PS3 (io), 67 ROMCTL-PP6 (in), 68 PJ7 (io), 69 PJ6 (io), 70 PM5 (io), 71 PM4 (io), 72 PM3 (io), 73 PM2 (io), 74 PM1 (io), 75 PM0 (io), 76 VSSX (power), 77 VDDX (power), 78 PP7 (io), 79 PP5 (io), 80 PP4 (io)

## MCP2551
designator Can_Bus?
IC TRANSCEIVER CAN HI-SPD 8-SOIC; MPN: MCP2551T-E/SN; PN: MCP2551T-E/SNCT-ND; URL: http://ww1.microchip.com/downloads/en/DeviceDoc/21667f.pdf
footprint SOIC127P600X175-8M (SOIC, 8-Leads, Body 4.90x3.90mm, Pitch 1.27mm, IPC Low Density)
pins: 1 TXD (in), 2 GND (power), 3 VCC (power), 4 RXD (out), 5 VREF (out), 6 CANL (io), 7 CANH (io), 8 RS (out)

## Resistor_0R_Jumper
designator R?, comment value 0R  (hidden comment: Res3)
RES SMD 0 OHM 5% 1/8W 0805; MPN: CRCW08050000Z0EA; Name: Resistor_0R_Jumper; PN: 541-0.0ACT-ND; URL: http://www.digikey.ca/product-detail/en/CRCW08050000Z0EA/541-0.0ACT-ND
footprint RESC2112X05M (Chip Resistor, 2-Leads, Body 2.05x1.25mm, IPC Low Density)
pins: 1, 2

## Resistor_1.00K
designator R?, comment value 0  (hidden comment: Res3)
RES SMD 1.00K OHM 1% 1/8W 0805; MPN: CRCW08051K00FKEA; Name: Resistor_1.00K; PN: 541-1.00KCCT-ND; URL: http://www.digikey.ca/product-detail/en/CRCW08051K00FKEA/541-1.00KCCT-ND
footprint RESC2112X05M (Chip Resistor, 2-Leads, Body 2.05x1.25mm, IPC Low Density)
pins: 1, 2

## Resistor_2.87K
designator R?, comment value 2.87K  (hidden comment: Res3)
RES SMD 2.87K OHM 1% 1/8W 0805; MPN: CRCW08052K87FKEA; Name: Resistor_2.87K; PN: 541-2870KCCT-ND; URL: http://www.digikey.ca/product-detail/en/CRCW08052K87FKEA/541-2870KCCT-ND
footprint RESC2112X05M (Chip Resistor, 2-Leads, Body 2.05x1.25mm, IPC Low Density)
pins: 1, 2

## Resistor_4.75K
designator R?, comment Res3  value 4.75K
RES SMD 4.75K OHM 1% 1/8W 0805; MPN: CRCW08054K75FKEA; Name: Resistor_4.75K; PN: 541-4750KCCT-ND; URL: http://www.digikey.ca/product-detail/en/CRCW08054K75FKEA/541-4750KCCT-ND
footprint RESC2112X05M (Chip Resistor, 2-Leads, Body 2.05x1.25mm, IPC Low Density)
pins: 1, 2

## Resistor_6.65K
designator R?, comment value 6.65K  (hidden comment: Res3)
RES SMD 6.65K OHM 1% 1/8W 0805; MPN: CRCW08056K65FKEA; Name: Resistor_6.65K; PN: 541-6.65KCCT-ND; URL: http://www.digikey.ca/product-detail/en/CRCW08056K65FKEA/541-6.65KCCT-ND
footprint RESC2112X05M (Chip Resistor, 2-Leads, Body 2.05x1.25mm, IPC Low Density)
pins: 1, 2

## Resistor_9.76M
designator R?, comment value 9.76M  (hidden comment: Res3)
RES SMD 9.76M OHM 1% 1/8W 0805; MPN: CRCW08059M76FKEA; Name: Resistor_9.76M; PN: 541-9760MCCT-ND; URL: http://www.digikey.ca/product-detail/en/CRCW08059M76FKEA/541-9760MCCT-ND
footprint RESC2112X05M (Chip Resistor, 2-Leads, Body 2.05x1.25mm, IPC Low Density)
pins: 1, 2

## Resistor_10.0K
designator R?, comment value 10.0K  (hidden comment: Res3)
RES SMD 10.0K OHM 1% 1/8W 0805; MPN: CRCW080510K0FKEA; Name: Resistor_10.0K; PN: 541-1000KCCT-ND; URL: http://www.digikey.ca/product-detail/en/CRCW080510K0FKEA/541-1000KCCT-ND
footprint RESC2112X05M (Chip Resistor, 2-Leads, Body 2.05x1.25mm, IPC Low Density)
pins: 1, 2

## Resistor_19.6K
designator R?, comment value 19.6K  (hidden comment: Res3)
RES SMD 19.6K OHM 1% 1/8W 0805; MPN: CRCW080519K6FKEA; Name: Resistor_19.6K; PN: 541-19.6KCCT-ND; URL: http://www.digikey.ca/product-detail/en/CRCW080519K6FKEA/541-19.6KCCT-ND
footprint RESC2112X05M (Chip Resistor, 2-Leads, Body 2.05x1.25mm, IPC Low Density)
pins: 1, 2

## Resistor_32.4K
designator R?, comment value 32.4K  (hidden comment: Res3)
RES SMD 32.4K OHM 1% 1/8W 0805; MPN: CRCW080532K4FKEA; Name: Resistor_32.4K; PN: 541-32.4KCCT-ND; URL: http://www.digikey.ca/product-detail/en/CRCW080532K4FKEA/541-32.4KCCT-ND
footprint RESC2112X05M (Chip Resistor, 2-Leads, Body 2.05x1.25mm, IPC Low Density)
pins: 1, 2

## Resistor_100K
designator R?, comment value 100K  (hidden comment: Res3)
RES SMD 100K OHM 1% 1/8W 0805; MPN: CRCW0805100KFKEA; Name: Resistor_100K; PN: 541-100KCCT-ND; URL: http://www.digikey.ca/product-detail/en/CRCW0805100KFKEA/541-100KCCT-ND
footprint RESC2112X05M (Chip Resistor, 2-Leads, Body 2.05x1.25mm, IPC Low Density)
pins: 1, 2

## Resistor_100R
designator Rp?, comment Res3  value 100R
RES SMD 100R OHM 1% 1/8W 0805; MPN: CRCW0805100RFKEA; Name: Resistor_100R; PN: 541-100CCT-ND; URL: http://www.digikey.ca/product-detail/en/CRCW0805100RFKEA/541-100CCT-ND
footprint RESC2112X05M (Chip Resistor, 2-Leads, Body 2.05x1.25mm, IPC Low Density)
pins: 1, 2

## Resistor_102R
designator R?, comment Res3  value 102R
RES SMD 102R OHM 1% 1/8W 0805; MPN: CRCW0805102RFKEA; Name: Resistor_102R; PN: 541-102CCT-ND; URL: http://www.digikey.ca/product-detail/en/CRCW0805102RFKEA/541-102CCT-ND
footprint RESC2112X05M (Chip Resistor, 2-Leads, Body 2.05x1.25mm, IPC Low Density)
pins: 1, 2

## Resistor_698R
designator R?, comment Res3  value 698R
RES SMD 698R OHM 1% 1/8W 0805; MPN: CRCW0805698RFKEA; Name: Resistor_698R; PN: 541-698CCT-ND; URL: http://www.digikey.ca/product-detail/en/CRCW0805698RFKEA/541-698CCT-ND
footprint RESC2112X05M (Chip Resistor, 2-Leads, Body 2.05x1.25mm, IPC Low Density)
pins: 1, 2

## SRN8040
designator L?, comment SRN8040-33uH
FIXED IND 22UH 2.2A 100 MOHM SMD; MPN: SRN8040-220M; PN: SRN8040-220MCT-ND; URL: http://www.digikey.ca/product-detail/en/SRN8040-330M/SRN8040-330MCT-ND/2756183
footprint INDP8080X40M (Precision Wire Wound Inductor, 2-Leads, Body 8.00x8.00mm, IPC Low Density)
footprint INDP8080X40M (Precision Wire Wound Inductor, 2-Leads, Body 8.00x8.00mm, IPC Low Density)
pins: 1, 2

## SWITCH_TACTILE
designator Reset?  (value not drawn)
SWITCH TACTILE SPST-NO 0.05A 12V; MPN: PTS645SH50SMTR92 LFS; PN: CKN9085CT-ND; URL: http://www.digikey.ca/product-detail/en/PTS645SH50SMTR92%20LFS/CKN9085CT-ND
footprint TACT_SWITCH_6MM_SMT
pins: 1, 2, 3, 4